# Altium schematic symbol library SM141K06L.SchLib: 1 symbol
Pins are listed as number, name and electrical type; pins without a type are passive.

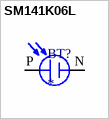
[diagram p0: symbol SM141K06L]

## SM141K06L
designator BT?
Monocrystalline Solar Cell 184mW 4.15V; MF: IXYS; MP: SM141K06L; SnapEDA_Link: https://www.snapeda.com/parts/SM141K06L/IXYS/view-part/?ref=snap; Package: Cells IXYS; Value: *; Check_prices: https://www.snapeda.com/parts/SM141K06L/IXYS/view-part/?ref=eda
footprint SOLAR_SM141K06L
pins: N, P